# Altium schematic symbol library TPS562201DDCR.SchLib: 1 symbol
Pins are listed as number, name and electrical type; pins without a type are passive.

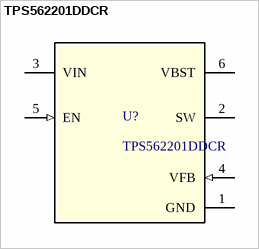
[diagram p0: symbol TPS562201DDCR]

## TPS562201DDCR
designator U?
No Description Available; Mfr_Name: Texas Instruments; CompType: IC; Type: DEV; RefDes: RefDes; Copyright: Copyright (C) 2024 Ultra Librarian. All rights reserved.; Manufacturer_Part_Number: TPS562201DDCR; Application_BuildNumber: *; PartNumber: TPS562201DDCR; PackageReference: DDC0006A; MountType: SMT; Manufacturer: Texas Instruments
footprint DDC0006A_N
pins: 1 GND (power), 2 SW (power), 3 VIN (power), 4 VFB (in), 5 EN (in), 6 VBST (power)